# EAGLE library part PH_S9B-PH (library CASE-JST)
JST PH Connector, through hole, 9 pin, side entry Description: JST PH connector with 2.0 mm pitch, through hole version, 9 pin, side entry. Links: Datasheet <http://www.jst-mfg.com/product/pdf/eng/ePH.pdf>
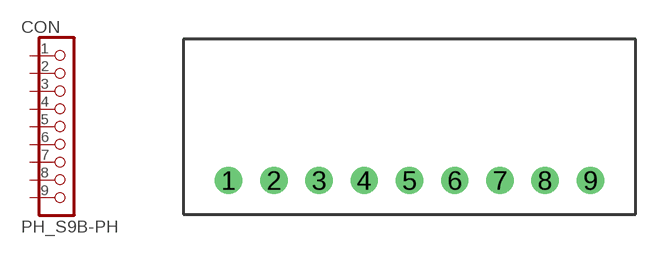
[diagram p5: symbol with the pads of S9B-PH; footprint S9B-PH]

Designator prefix CON

## PH_S9B-PH  [S9B-PH]
1  1  pas
2  2  pas
3  3  pas
4  4  pas
5  5  pas
6  6  pas
7  7  pas
8  8  pas
9  9  pas

## Footprint S9B-PH (pad centres in mm)
JST S9B-PH Datasheet <http://www.jst-mfg.com/product/pdf/eng/ePH.pdf>
drill 0.7: 1 -8,0; 2 -6,0; 3 -4,0; 4 -2,0; 5 0,0; 6 2,0; 7 4,0; 8 6,0; 9 8,0